# Altium schematic symbol library 3568.SchLib: 1 symbol
Pins are listed as number, name and electrical type; pins without a type are passive.

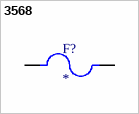
[diagram p0: symbol 3568]

## 3568
designator F?
Auto Fuse Holder, Mini, THM, 1 Fuse, 30Amp, Hi-Temp Nylon, UL94V-0, Brass/Tin | Keystone Electronics 3568; MP: 3568; SnapEDA_Link: https://www.snapeda.com/parts/3568/Keystone/view-part/?ref=snap; Package: NON STANDARD Keystone; Value: *; MF: Keystone Electronics; Check_prices: https://www.snapeda.com/parts/3568/Keystone/view-part/?ref=eda
footprint FUSE_3568
pins: 1, 2, 3 1, 4 2